# EAGLE library part MSC1210 (library TI_MSC1210)
TEXAS INSTRUMENTS - MSC1210 Precision Analog-to-Digital Converter (ADC) with 8051 Microcontroller and Flash Memory
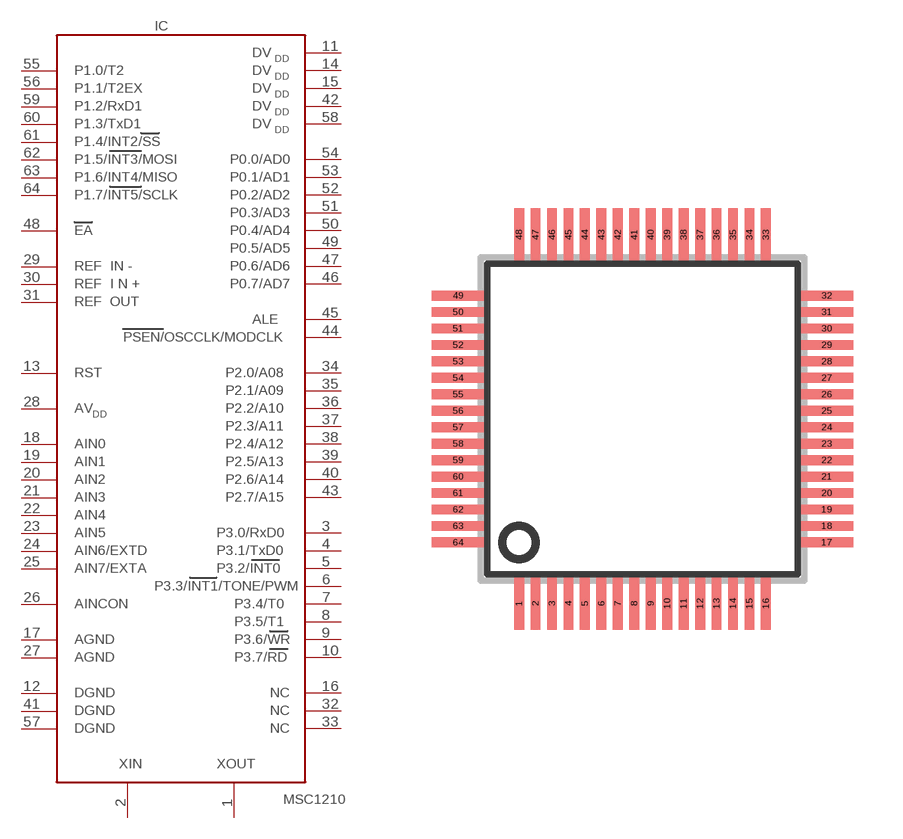
[diagram p0: symbol with the pads of SQFP-S-10X10-64; footprint SQFP-S-10X10-64]

Designator prefix IC

## MSC1210  [SQFP-S-10X10-64]
1  XOUT  out
2  XIN  in
3  P3.0/RXD0
4  P3.1/TXD0
5  P3.2/\INT0
6  P3.3/\INT1/TONE/PWM
7  P3.4/T0
8  P3.5/T1
9  P3.6/\WR
10  P3.7/\RD
11  DVDD0  pwr
12  DGND0  pwr
13  RST
14  DVDD1  pwr
15  DVDD2  pwr
16  NC0  nc
17  AGND0  pwr
18  AIN0  in
19  AIN1  in
20  AIN2  in
21  AIN3  in
22  AIN4  in
23  AIN5  in
24  AIN6/EXTD  in
25  AIN7/EXTA  in
26  AINCOM  in
27  AGND1  pwr
28  AVDD
29  REF-  in
30  REF+  in
31  REF_OUT  out
32  NC1  nc
33  NC2  nc
34  P2.0/A8
35  P2.1/A9
36  P2.2/A10
37  P2.3/A11
38  P2.4/A12
39  P2.5/A13
40  P2.6/A14
41  DGND1  pwr
42  DVDD3  pwr
43  P2.7/A15
44  \PSEN/OSCCLK/MODCLK
45  ALE
46  P0.7/AD7
47  P0.6/AD6
48  \EA  in
49  P0.5/AD5
50  P0.4/AD4
51  P0.3/AD3
52  P0.2/AD2
53  P0.1/AD1
54  P0.0/AD0
55  P1.0/T2
56  P1.1/T2EX
57  DGND2  pwr
58  DVDD4  pwr
59  P1.2/RXD1
60  P1.3/TXD1
61  P1.4/INT2/\SS
62  P1.5/\INT3/MOSI
63  P1.6/INT4/MISO
64  P1.7/\INT5/SCLK

## Footprint SQFP-S-10X10-64 (pad centres in mm)
QFP64 shrink quad flat pack, square
smd 0.3 x 1.6: 1 -3.75,-5.6; 2 -3.25,-5.6; 3 -2.75,-5.6; 4 -2.25,-5.6; 5 -1.75,-5.6; 6 -1.25,-5.6; 7 -0.75,-5.6; 8 -0.25,-5.6; 9 0.25,-5.6; 10 0.75,-5.6; 11 1.25,-5.6; 12 1.75,-5.6; 13 2.25,-5.6; 14 2.75,-5.6; 15 3.25,-5.6; 16 3.75,-5.6; 33 3.75,5.6; 34 3.25,5.6; 35 2.75,5.6; 36 2.25,5.6; 37 1.75,5.6; 38 1.25,5.6; 39 0.75,5.6; 40 0.25,5.6; 41 -0.25,5.6; 42 -0.75,5.6; 43 -1.25,5.6; 44 -1.75,5.6; 45 -2.25,5.6; 46 -2.75,5.6; 47 -3.25,5.6; 48 -3.75,5.6
smd 1.6 x 0.3: 17 5.6,-3.75; 18 5.6,-3.25; 19 5.6,-2.75; 20 5.6,-2.25; 21 5.6,-1.75; 22 5.6,-1.25; 23 5.6,-0.75; 24 5.6,-0.25; 25 5.6,0.25; 26 5.6,0.75; 27 5.6,1.25; 28 5.6,1.75; 29 5.6,2.25; 30 5.6,2.75; 31 5.6,3.25; 32 5.6,3.75; 49 -5.6,3.75; 50 -5.6,3.25; 51 -5.6,2.75; 52 -5.6,2.25; 53 -5.6,1.75; 54 -5.6,1.25; 55 -5.6,0.75; 56 -5.6,0.25; 57 -5.6,-0.25; 58 -5.6,-0.75; 59 -5.6,-1.25; 60 -5.6,-1.75; 61 -5.6,-2.25; 62 -5.6,-2.75; 63 -5.6,-3.25; 64 -5.6,-3.75